# EAGLE library part 74*595? (library 74xx)
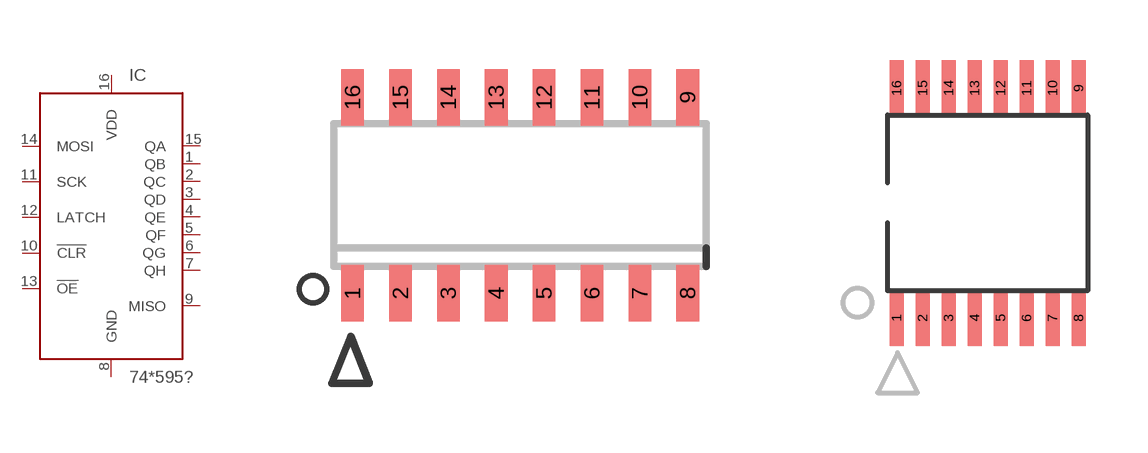
[diagram p0: symbol with the pads of SOIC16N; footprints SOIC16N, TSSOP-16]

Designator prefix IC

## 74595D, 74AHC595D, 74AHCT595D, 74ALVC595D, 74HC595D, 74HCT595D, 74LV595D, 74LVC595D, 74LVT595D  [SOIC16N]
1  QB  out
2  QC  out
3  QD  out
4  QE  out
5  QF  out
6  QG  out
7  QH  out
8  GND  pwr
9  MISO  out
10  !CLR  in
11  SCK  in
12  LATCH  in
13  !OE  in
14  MOSI  in
15  QA  out
16  VDD  pwr

## 74595PW, 74AHC595PW, 74AHCT595PW, 74ALVC595PW, 74HC595PW, 74HCT595PW, 74LV595PW, 74LVC595PW, 74LVT595PW  [TSSOP-16]
Pads as for SOIC16N

## Footprint SOIC16N (pad centres in mm)
SMALL OUTLINE INTEGRATED CIRCUIT
smd 0.6 x 1.5: 1 -4.445,-2.6; 2 -3.175,-2.6; 3 -1.905,-2.6; 4 -0.635,-2.6; 5 0.635,-2.6; 6 1.905,-2.6; 7 3.175,-2.6; 8 4.445,-2.6; 9 4.445,2.6; 10 3.175,2.6; 11 1.905,2.6; 12 0.635,2.6; 13 -0.635,2.6; 14 -1.905,2.6; 15 -3.175,2.6; 16 -4.445,2.6

## Footprint TSSOP-16 (pad centres in mm)
smd 0.35 x 1.4: 1 -2.275,-2.875; 2 -1.625,-2.875; 3 -0.975,-2.875; 4 -0.325,-2.875; 5 0.325,-2.875; 6 0.975,-2.875; 7 1.625,-2.875; 8 2.275,-2.875; 9 2.275,2.875; 10 1.625,2.875; 11 0.975,2.875; 12 0.325,2.875; 13 -0.325,2.875; 14 -0.975,2.875; 15 -1.625,2.875; 16 -2.275,2.875